# Altium footprint library MINI-V3.PcbLib: 53 footprints (part 1 of 4)
Each footprint in its own frame and in the unit in brackets; x right, y up, seen from the top. Pads: shape width x height; smd on the part's side, far side on the other; paste and mask are expansions set on the pad; w line width, h text height; cw(c..) or ccw(c..) is an arc to the next point about the centre after c.
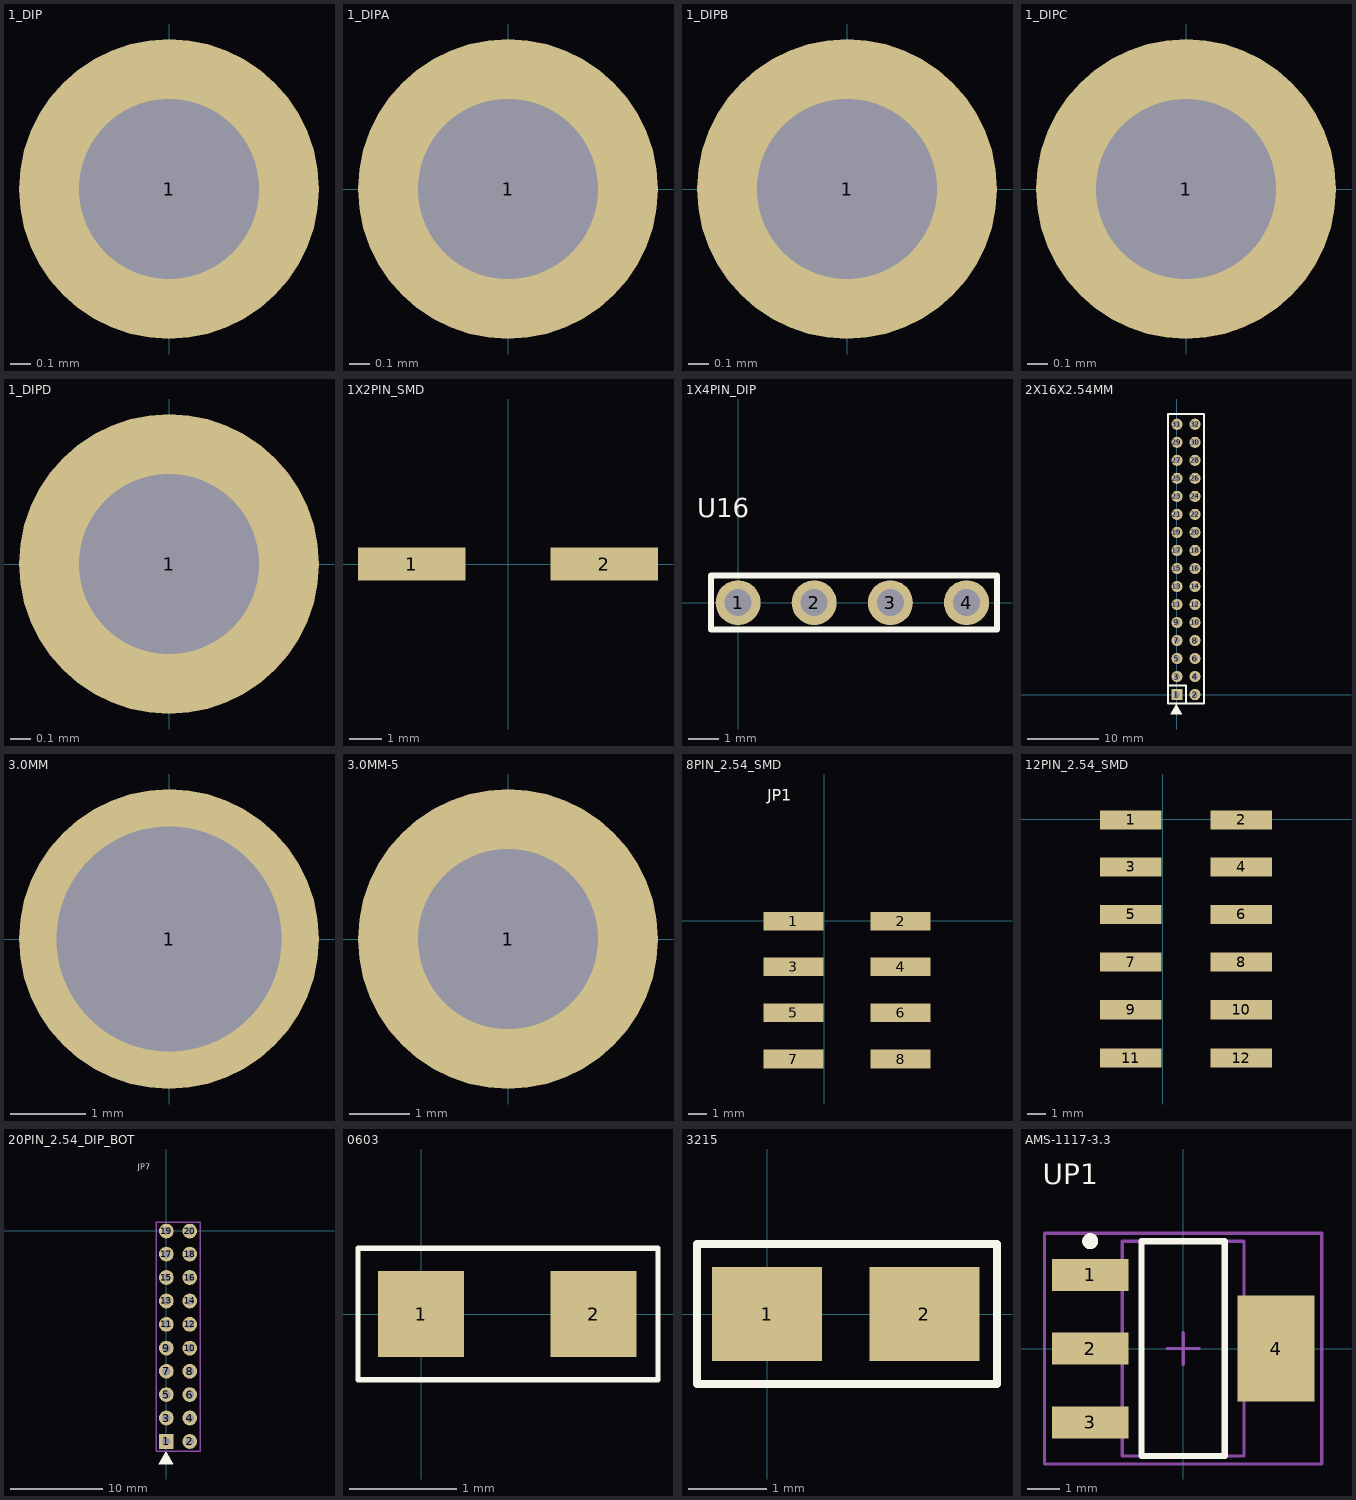
[diagram p0: the footprints below, top view; thin cyan lines are the x and y axes]

## 1_DIP [mm]
pads (1):
  round 1.5 hole 0.9: 1(0,1.6)

## 1_DIPA [mm]
pads (1):
  round 1.5 hole 0.9: 1(0,0)

## 1_DIPB [mm]
pads (1):
  round 1.5 hole 0.9: 1(0,0)

## 1_DIPC [mm]
pads (1):
  round 1.5 hole 0.9: 1(0,0)

## 1_DIPD [mm]
pads (1):
  round 1.5 hole 0.9: 1(0,0)

## 1X2PIN_SMD [mm]
pads (2):
  rect 3.3x1.02 smd: 1(-2.965,0.011) 2(2.965,0.011)

## 1X4PIN_DIP [mm]
pads (4):
  round 1.5 hole 0.9: 1(0,0) 2(2.54,0) 3(5.08,0) 4(7.62,0)
Top Overlay:
  lines w0.2: -0.9,-0.9 -0.9,0.9 8.636,0.9 8.636,-0.9 -0.9,-0.9
  text "U16" at -1.37,2.843 h0.64

## 2X16X2.54MM [mil]
pads (32):
  rrect0% 62x62 hole 35.43: 1(0,0)
  round 62 hole 35.43: 2(100,0) 3(0,100) 4(100,100) 5(0,200) 6(100,200) 7(0,300) 8(100,300) 9(0,400) 10(100,400) 11(0,500) 12(100,500) 13(0,600) 14(100,600) 15(0,700) 16(100,700) 17(0,800) 18(100,800) 19(0,900) 20(100,900) 21(0,1000) 22(100,1000) 23(0,1100) 24(100,1100) 25(0,1200) 26(100,1200) 27(0,1300) 28(100,1300) 29(0,1400) 30(100,1400) 31(0,1500) 32(100,1500)
Top Overlay:
  drawing of 473 lines, arcs and shapes, not listed

## 3.0MM [mm]
pads (1):
  round 4 hole 3: 1(0,0)

## 3.0MM-5 [mm]
pads (1):
  round 5 hole 3: 1(0,0)

## 8PIN_2.54_SMD [mm]
pads (8):
  rect 3.3x1.02 smd: 1(-1.7,-0.04) 2(4.2,-0.04) 3(-1.7,-2.54) 4(4.2,-2.54) 5(-1.7,-5.08) 6(4.2,-5.08) 7(-1.7,-7.62) 8(4.2,-7.62)
Top Overlay:
  text "JP1" at -3.127,6.6 h0.64

## 12PIN_2.54_SMD [mm]
pads (12):
  rect 3.3x1.02 smd: 1(-1.7,-0.04) 2(4.2,-0.04) 3(-1.7,-2.54) 4(4.2,-2.54) 5(-1.7,-5.08) 6(4.2,-5.08) 7(-1.7,-7.62) 8(4.2,-7.62) 9(-1.7,-10.16) 10(4.2,-10.16) 11(-1.7,-12.74) 12(4.2,-12.74)

## 20PIN_2.54_DIP_BOT [mm]
pads (20):
  rect 1.6x1.6 hole 0.9: 1(0,-22.86)
  round 1.6 hole 0.9: 2(2.54,-22.86) 3(0,-20.32) 4(2.54,-20.32) 5(0,-17.78) 6(2.54,-17.78) 7(0,-15.24) 8(2.54,-15.24) 9(0,-12.74) 10(2.54,-12.74) 11(0,-10.16) 12(2.54,-10.16) 13(0,-7.62) 14(2.54,-7.62) 15(0,-5.08) 16(2.54,-5.08) 17(0,-2.54) 18(2.54,-2.54) 19(0,-0.04) 20(2.54,-0.04)
Top Overlay:
  drawing of 465 lines, arcs and shapes, not listed
  text "JP7" at -3.127,6.6 h0.64
Mechanical 1:
  lines w0.15: -1.1,-23.9 3.7,-23.9 3.7,0.9 -1.1,0.9 -1.1,-23.9

## 0603 [mm]
pads (2):
  rect 0.8x0.8 smd: 1(0,0) 2(1.6,0)
Top Overlay:
  lines w0.051: -0.584,-0.61 2.197,-0.61 2.197,0.61 -0.584,0.61 -0.584,-0.61

## 3215 [mm]
pads (2):
  rect 1.4x1.2 smd: 1(0,0) 2(2,0)
Top Overlay:
  lines w0.1: -0.889,-0.889 2.921,-0.889 2.921,0.889 -0.889,0.889 ; -0.889,0.889 -0.889,-0.855 -0.889,0.889

## AMS-1117-3.3 [mm]
height 1.6
pads (4):
  rect 2.4x1 smd: 1(-2.9,2.3) 2(-2.9,0) 3(-2.9,-2.3)
  rect 2.4x3.3 smd: 4(2.9,0)
Top Overlay:
  circle w0.25: c-2.9,3.35 r0.125
  lines w0.2: -1.3,-3.35 1.3,-3.35 1.3,3.35 -1.3,3.35 -1.3,-3.35
  text "UP1" at -4.375,5.123 h0.64
Mechanical 16:
  lines w0.1: -0.5,0 0.5,0 ; 0,-0.5 0,0.5 ; -4.325,-3.6 4.325,-3.6 4.325,3.6 -4.325,3.6 -4.325,-3.6 ; -1.9,-3.35 1.9,-3.35 1.9,3.35 -1.9,3.35 -1.9,-3.35